# Altium footprint library DSWB06LHGET.PcbLib: 1 footprints
Each footprint in its own frame and in the unit in brackets; x right, y up, seen from the top. Pads: shape width x height; smd on the part's side, far side on the other; paste and mask are expansions set on the pad; w line width, h text height; cw(c..) or ccw(c..) is an arc to the next point about the centre after c.
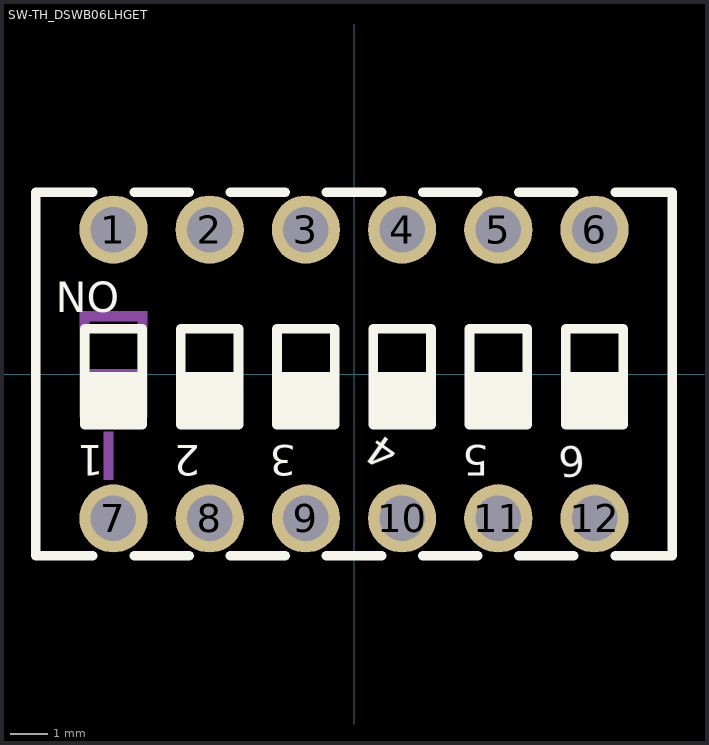
[diagram p0: the footprint, top view; thin cyan lines are the x and y axes]

## SW-TH_DSWB06LHGET [mm]
pads (12):
  round 1.8 hole 1.2 paste-2539.97 mask+0.051: 1(-6.35,3.81) 2(-3.81,3.81) 3(-1.27,3.81) 4(1.27,3.81) 5(3.81,3.81) 6(6.35,3.81) 7(-6.35,-3.81) 8(-3.81,-3.81) 9(-1.27,-3.81) 10(1.27,-3.81) 11(3.81,-3.81) 12(6.35,-3.81)
Top Overlay:
  lines w0.254: -7.112,-1.087 -5.588,-1.087 ; -7.112,-0.833 -5.588,-0.833 ; -7.112,-0.579 -5.588,-0.579 ; -7.112,-0.325 -5.588,-0.325 ; -7.112,-0.071 -5.588,-0.071 ; -6.894,-4.8 -8.4,-4.8 -8.4,4.8 -6.894,4.8 ; -5.806,-4.8 -4.354,-4.8 ; -5.806,4.8 -4.354,4.8 ; -4.572,-1.087 -3.048,-1.087 ; -4.572,-0.833 -3.048,-0.833 ; -4.572,-0.579 -3.048,-0.579 ; -4.572,-0.325 -3.048,-0.325 ; -4.572,-0.071 -3.048,-0.071 ; -3.266,-4.8 -1.814,-4.8 ; -3.266,4.8 -1.814,4.8 ; -2.032,-1.087 -0.508,-1.087 ; -2.032,-0.833 -0.508,-0.833 ; -2.032,-0.579 -0.508,-0.579 ; -2.032,-0.325 -0.508,-0.325 ; -2.032,-0.071 -0.508,-0.071 ; -0.726,-4.8 0.726,-4.8 ; -0.726,4.8 0.726,4.8 ; 0.508,-1.087 2.032,-1.087 ; 0.508,-0.833 2.032,-0.833 ; 0.508,-0.579 2.032,-0.579 ; 0.508,-0.325 2.032,-0.325 ; 0.508,-0.071 2.032,-0.071 ; 1.814,-4.8 3.266,-4.8 ; 1.814,4.8 3.266,4.8 ; 3.048,-1.087 4.572,-1.087 ; 3.048,-0.833 4.572,-0.833 ; 3.048,-0.579 4.572,-0.579 ; 3.048,-0.325 4.572,-0.325 ; 3.048,-0.071 4.572,-0.071 ; 4.354,-4.8 5.806,-4.8 ; 4.354,4.8 5.806,4.8 ; 5.588,-1.087 7.112,-1.087 ; 5.588,-0.833 7.112,-0.833 ; 5.588,-0.579 7.112,-0.579 ; 5.588,-0.325 7.112,-0.325 ; 5.588,-0.071 7.112,-0.071 ; 6.894,-4.8 8.4,-4.8 8.4,4.8 6.894,4.8 ; -7.112,-1.341 -5.588,-1.341 -5.588,1.199 -7.112,1.199 -7.112,-1.341 ; -4.572,-1.341 -3.048,-1.341 -3.048,1.199 -4.572,1.199 -4.572,-1.341 ; -2.032,-1.341 -0.508,-1.341 -0.508,1.199 -2.032,1.199 -2.032,-1.341 ; 0.508,-1.341 2.032,-1.341 2.032,1.199 0.508,1.199 0.508,-1.341 ; 3.048,-1.341 4.572,-1.341 4.572,1.199 3.048,1.199 3.048,-1.341 ; 5.588,-1.341 7.112,-1.341 7.112,1.199 5.588,1.199 5.588,-1.341
  text "NO" at -7.874,1.632 h0.8
  text "1" at -6.604,-1.886 h0.8
  text "2" at -4.064,-1.886 h0.8
  text "3" at -1.524,-1.886 h0.8
  text "4" at 1.245,-1.958 h0.8
  text "5" at 3.556,-1.886 h0.8
  text "6" at 6.061,-1.888 h0.8
Mechanical 15:
  region: -6.604,-1.524 -6.35,-1.524 -6.35,-2.794 -6.604,-2.794
  region: -7.239,1.651 -5.461,1.651 -5.461,-1.143 -7.239,-1.143 -7.239,0.127 -5.715,0.127 -5.715,1.397 -7.239,1.397
  region: -7.239,1.397 -7.239,0.127 -6.985,0.127 -6.985,1.397